# Altium footprint library GPS.PcbLib: 1 footprints
Each footprint in its own frame and in the unit in brackets; x right, y up, seen from the top. Pads: shape width x height; smd on the part's side, far side on the other; paste and mask are expansions set on the pad; w line width, h text height; cw(c..) or ccw(c..) is an arc to the next point about the centre after c.
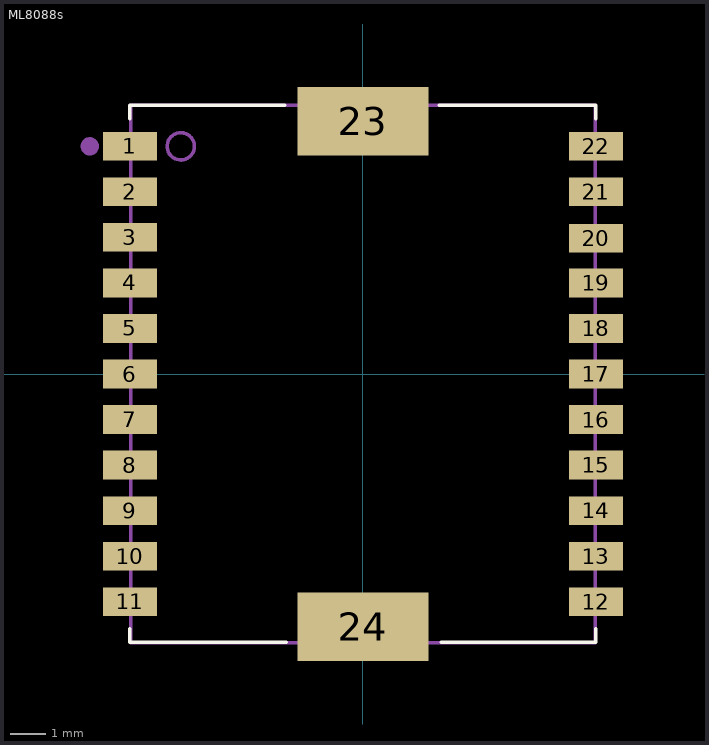
[diagram p0: the footprint, top view; thin cyan lines are the x and y axes]

## ML8088s [mm] "GPS, GLONASS, GALILEO Receiver"
height 2.8
pads (24):
  rect 1.5x0.8 smd: 1(-6.5,6.35) 2(-6.5,5.08) 3(-6.5,3.81) 4(-6.5,2.54) 5(-6.5,1.27) 6(-6.5,0) 7(-6.5,-1.27) 8(-6.5,-2.54) 9(-6.5,-3.81) 10(-6.5,-5.08) 11(-6.5,-6.35) 12(6.5,-6.35) 13(6.5,-5.08) 14(6.5,-3.81) 15(6.5,-2.54) 16(6.5,-1.27) 17(6.5,0) 18(6.5,1.27) 19(6.5,2.54) 20(6.5,3.787) 21(6.5,5.08) 22(6.5,6.35)
  rect 3.65x1.9 smd: 23(0,7.05) 24(0,-7.05)
Top Overlay:
  lines w0.1: -6.5,-7.105 -6.5,-7.486 -2.136,-7.486 ; -6.5,7.119 -6.5,7.5 -2.182,7.5 ; 2.136,7.5 6.5,7.5 6.5,7.119 ; 2.182,-7.486 6.5,-7.486 6.5,-7.105
Mechanical 13:
  circle w0.1: c-5.08,6.35 r0.381
  circle w0.254: c-7.62,6.35 r0.127
  lines w0.1: -6.477,-7.493 6.477,-7.493 6.477,7.493 -6.477,7.493 -6.477,-7.493
  text ".Designator" at -3.175,-0.635 h1.52
Mechanical 15:
  lines w0.05: -6.5,-7.5 6.5,-7.5 6.5,7.5 -6.5,7.5 -6.5,-7.5